# EAGLE library part KWM-30881CVB (library KWM-30881XVB)
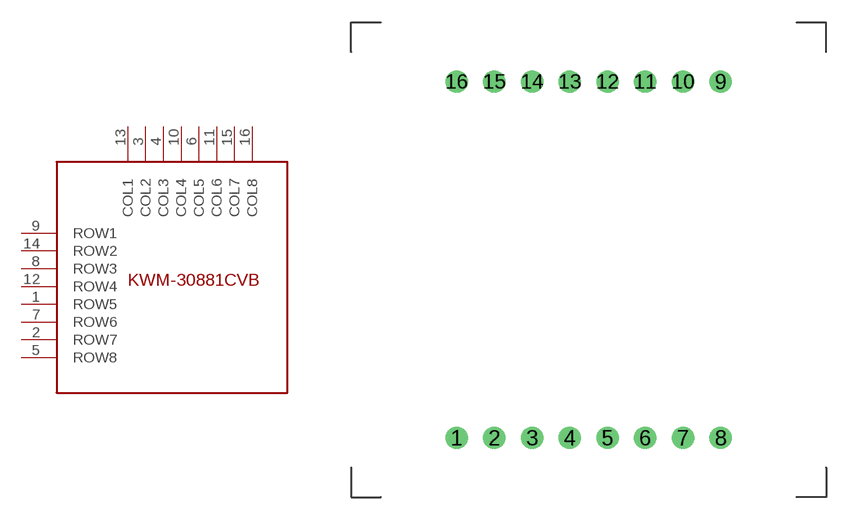
[diagram p0: symbol with the pads of KWM-30881CVB; footprint KWM-30881CVB]

Designator prefix D

## KWM-30881CVB  [KWM-30881CVB]
1  ROW5
2  ROW7
3  COL2
4  COL3
5  ROW8
6  COL5
7  ROW6
8  ROW3
9  ROW1
10  COL4
11  COL6
12  ROW4
13  COL1
14  ROW2
15  COL7
16  COL8

## Footprint KWM-30881CVB (pad centres in mm)
drill 1: 1 -8.89,-12; 2 -6.35,-12; 3 -3.81,-12; 4 -1.27,-12; 5 1.27,-12; 6 3.81,-12; 7 6.35,-12; 8 8.89,-12; 9 8.89,12; 10 6.35,12; 11 3.81,12; 12 1.27,12; 13 -1.27,12; 14 -3.81,12; 15 -6.35,12; 16 -8.89,12